# Altium footprint library ELEC(10.0X10.0)-SMD.PcbLib: 1 footprints
Each footprint in its own frame and in the unit in brackets; x right, y up, seen from the top. Pads: shape width x height; smd on the part's side, far side on the other; paste and mask are expansions set on the pad; w line width, h text height; cw(c..) or ccw(c..) is an arc to the next point about the centre after c.
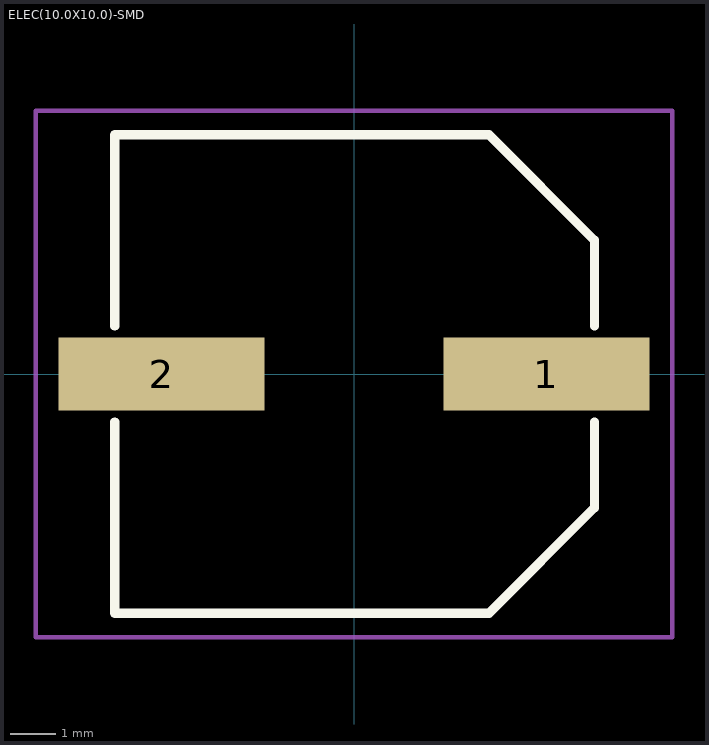
[diagram p0: the footprint, top view; thin cyan lines are the x and y axes]

## ELEC(10.0X10.0)-SMD [mm]
pads (2):
  rect 4.5x1.6 smd: 1(4.2,0) 2(-4.2,0)
Top Overlay:
  lines w0.2: -5.225,-1.05 -5.225,-5.225 2.95,-5.225 5.25,-2.925 5.25,-1.05 ; -5.225,1.05 -5.225,5.225 2.95,5.225 5.25,2.925 5.25,1.05
Top Courtyard:
  lines w0.1: -6.95,-0.8 -6.95,-5.75 ; -6.1,-5.75 -6.95,-5.75 ; 6.1,5.75 6.95,5.75 ; 6.95,0.8 6.95,5.75 ; -6.95,-5.75 -6.95,5.75 6.95,5.75 ; -6.95,-5.75 6.95,-5.75 6.95,5.75
3D body "EDH227M035A9PAA.step": height 10.51, standoff 0, extent -6.1,-5.25 6.1,5.25